# Altium schematic symbol library Microcontroller.SchLib: 3 symbols
Pins are listed as number, name and electrical type; pins without a type are passive.

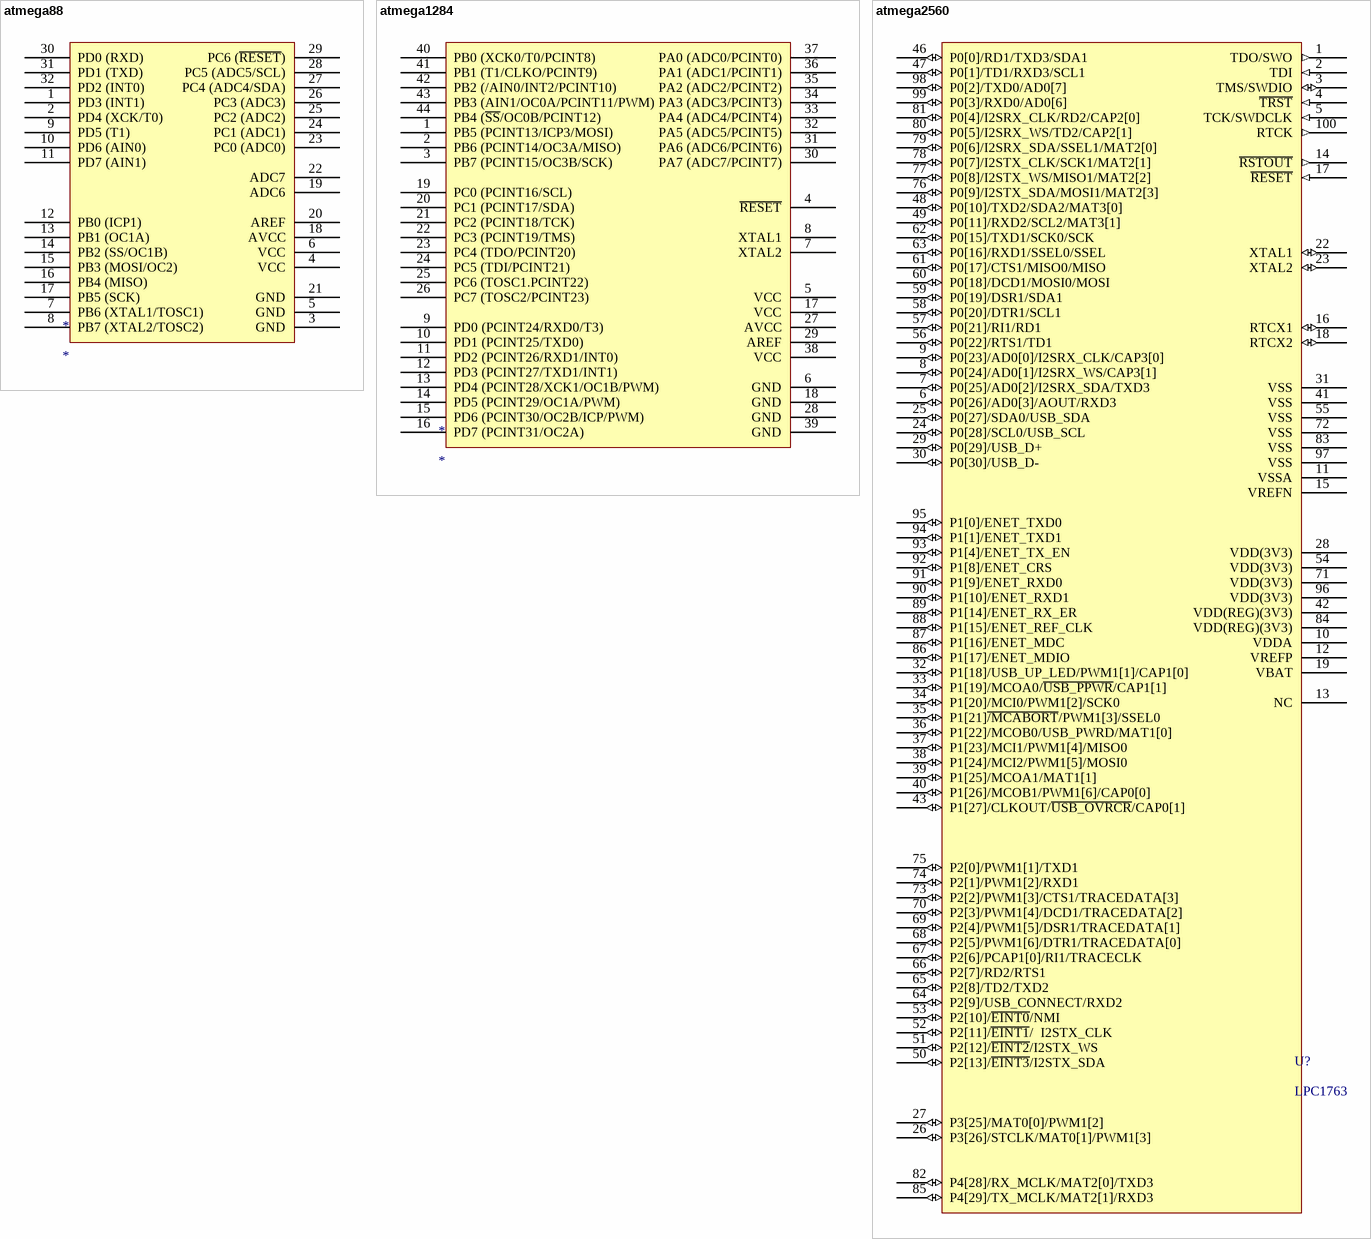
[diagram p0: symbols atmega88 to atmega2560]

## atmega88
designator *
footprint atmega44/88/168 (CQFP, 32-Leads, Body 11.15x11.15mm, Pitch 0.80mm, IPC Medium Density)
pins: 1 PD3 (INT1), 2 PD4 (XCK/T0), 3 GND, 4 VCC, 5 GND, 6 VCC, 7 PB6 (XTAL1/TOSC1), 8 PB7 (XTAL2/TOSC2), 9 PD5 (T1), 10 PD6 (AIN0), 11 PD7 (AIN1), 12 PB0 (ICP1), 13 PB1 (OC1A), 14 PB2 (SS/OC1B), 15 PB3 (MOSI/OC2), 16 PB4 (MISO), 17 PB5 (SCK), 18 AVCC, 19 ADC6, 20 AREF, 21 GND, 22 ADC7, 23 PC0 (ADC0), 24 PC1 (ADC1), 25 PC2 (ADC2), 26 PC3 (ADC3), 27 PC4 (ADC4/SDA), 28 PC5 (ADC5/SCL), 29 PC6 (~{RESET}), 30 PD0 (RXD), 31 PD1 (TXD), 32 PD2 (INT0)

## atmega1284
designator *
footprint Atmega1284P TQFP (CQFP, 44-Leads, Body 14.15x14.15mm, Pitch 0.80mm, IPC Medium Density)
pins: 1 PB5 (PCINT13/ICP3/MOSI), 2 PB6 (PCINT14/OC3A/MISO), 3 PB7 (PCINT15/OC3B/SCK), 4 ~{RESET}, 5 VCC, 6 GND, 7 XTAL2, 8 XTAL1, 9 PD0 (PCINT24/RXD0/T3), 10 PD1 (PCINT25/TXD0), 11 PD2 (PCINT26/RXD1/INT0), 12 PD3 (PCINT27/TXD1/INT1), 13 PD4 (PCINT28/XCK1/OC1B/PWM), 14 PD5 (PCINT29/OC1A/PWM), 15 PD6 (PCINT30/OC2B/ICP/PWM), 16 PD7 (PCINT31/OC2A), 17 VCC, 18 GND, 19 PC0 (PCINT16/SCL), 20 PC1 (PCINT17/SDA), 21 PC2 (PCINT18/TCK), 22 PC3 (PCINT19/TMS), 23 PC4 (TDO/PCINT20), 24 PC5 (TDI/PCINT21), 25 PC6 (TOSC1.PCINT22), 26 PC7 (TOSC2/PCINT23), 27 AVCC, 28 GND, 29 AREF, 30 PA7 (ADC7/PCINT7), 31 PA6 (ADC6/PCINT6), 32 PA5 (ADC5/PCINT5), 33 PA4 (ADC4/PCINT4), 34 PA3 (ADC3/PCINT3), 35 PA2 (ADC2/PCINT2), 36 PA1 (ADC1/PCINT1), 37 PA0 (ADC0/PCINT0), 38 VCC, 39 GND, 40 PB0 (XCK0/T0/PCINT8), 41 PB1 (T1/CLKO/PCINT9), 42 PB2 (/AIN0/INT2/PCINT10), 43 PB3 (AIN1/OC0A/PCINT11/PWM), 44 PB4 (~{SS}/OC0B/PCINT12)

## atmega2560
designator U?, comment LPC1763
footprint TSQFP50P1600X1600X160-100N (TSQFP, 100-Leads, Body 14.00x14.00mm, Pitch 0.50mm, IPC Medium Density)
pins: 1 TDO/SWO (out), 2 TDI (in), 3 TMS/SWDIO (io), 4 ~{TRST} (in), 5 TCK/SWDCLK (in), 6 P0[26]/AD0[3]/AOUT/RXD3 (io), 7 P0[25]/AD0[2]/I2SRX_SDA/TXD3 (io), 8 P0[24]/AD0[1]/I2SRX_WS/CAP3[1] (io), 9 P0[23]/AD0[0]/I2SRX_CLK/CAP3[0] (io), 10 VDDA (power), 11 VSSA (power), 12 VREFP (power), 13 NC, 14 ~{RSTOUT} (out), 15 VREFN (power), 16 RTCX1 (io), 17 ~{RESET} (in), 18 RTCX2 (io), 19 VBAT (power), 22 XTAL1 (io), 23 XTAL2 (io), 24 P0[28]/SCL0/USB_SCL (io), 25 P0[27]/SDA0/USB_SDA (io), 26 P3[26]/STCLK/MAT0[1]/PWM1[3] (io), 27 P3[25]/MAT0[0]/PWM1[2] (io), 28 VDD(3V3) (power), 29 P0[29]/USB_D+ (io), 30 P0[30]/USB_D- (io), 31 VSS (power), 32 P1[18]/USB_UP_LED/PWM1[1]/CAP1[0] (io), 33 P1[19]/MCOA0/~{USB_PPWR}/CAP1[1] (io), 34 P1[20]/MCI0/PWM1[2]/SCK0 (io), 35 P1[21]~{/MCABORT}/PWM1[3]/SSEL0 (io), 36 P1[22]/MCOB0/USB_PWRD/MAT1[0] (io), 37 P1[23]/MCI1/PWM1[4]/MISO0 (io), 38 P1[24]/MCI2/PWM1[5]/MOSI0 (io), 39 P1[25]/MCOA1/MAT1[1] (io), 40 P1[26]/MCOB1/PWM1[6]/CAP0[0] (io), 41 VSS (power), 42 VDD(REG)(3V3) (power), 43 P1[27]/CLKOUT/~{USB_OVRCR}/CAP0[1] (io), 46 P0[0]/RD1/TXD3/SDA1 (io), 47 P0[1]/TD1/RXD3/SCL1 (io), 48 P0[10]/TXD2/SDA2/MAT3[0] (io), 49 P0[11]/RXD2/SCL2/MAT3[1] (io), 50 P2[13]/~{EINT3}/I2STX_SDA (io), 51 P2[12]/~{EINT2}/I2STX_WS (io), 52 P2[11]/~{EINT1}/  I2STX_CLK (io), 53 P2[10]/~{EINT0}/NMI (io), 54 VDD(3V3) (power), 55 VSS (power), 56 P0[22]/RTS1/TD1 (io), 57 P0[21]/RI1/RD1 (io), 58 P0[20]/DTR1/SCL1 (io), 59 P0[19]/DSR1/SDA1 (io), 60 P0[18]/DCD1/MOSI0/MOSI (io), 61 P0[17]/CTS1/MISO0/MISO (io), 62 P0[15]/TXD1/SCK0/SCK (io), 63 P0[16]/RXD1/SSEL0/SSEL (io), 64 P2[9]/USB_CONNECT/RXD2 (io), 65 P2[8]/TD2/TXD2 (io), 66 P2[7]/RD2/RTS1 (io), 67 P2[6]/PCAP1[0]/RI1/TRACECLK (io), 68 P2[5]/PWM1[6]/DTR1/TRACEDATA[0] (io), 69 P2[4]/PWM1[5]/DSR1/TRACEDATA[1] (io), 70 P2[3]/PWM1[4]/DCD1/TRACEDATA[2] (io), 71 VDD(3V3) (power), 72 VSS (power), 73 P2[2]/PWM1[3]/CTS1/TRACEDATA[3] (io), 74 P2[1]/PWM1[2]/RXD1 (io), 75 P2[0]/PWM1[1]/TXD1 (io), 76 P0[9]/I2STX_SDA/MOSI1/MAT2[3] (io), 77 P0[8]/I2STX_WS/MISO1/MAT2[2] (io), 78 P0[7]/I2STX_CLK/SCK1/MAT2[1] (io), 79 P0[6]/I2SRX_SDA/SSEL1/MAT2[0] (io), 80 P0[5]/I2SRX_WS/TD2/CAP2[1] (io), 81 P0[4]/I2SRX_CLK/RD2/CAP2[0] (io), 82 P4[28]/RX_MCLK/MAT2[0]/TXD3 (io), 83 VSS (power), 84 VDD(REG)(3V3) (power), 85 P4[29]/TX_MCLK/MAT2[1]/RXD3 (io), 86 P1[17]/ENET_MDIO (io), 87 P1[16]/ENET_MDC (io), 88 P1[15]/ENET_REF_CLK (io), 89 P1[14]/ENET_RX_ER (io), 90 P1[10]/ENET_RXD1 (io), 91 P1[9]/ENET_RXD0 (io), 92 P1[8]/ENET_CRS (io), 93 P1[4]/ENET_TX_EN (io), 94 P1[1]/ENET_TXD1 (io), 95 P1[0]/ENET_TXD0 (io), 96 VDD(3V3) (power), 97 VSS (power), 98 P0[2]/TXD0/AD0[7] (io), 99 P0[3]/RXD0/AD0[6] (io), 100 RTCK (out)